# EAGLE library part MCP4451 (library base48)
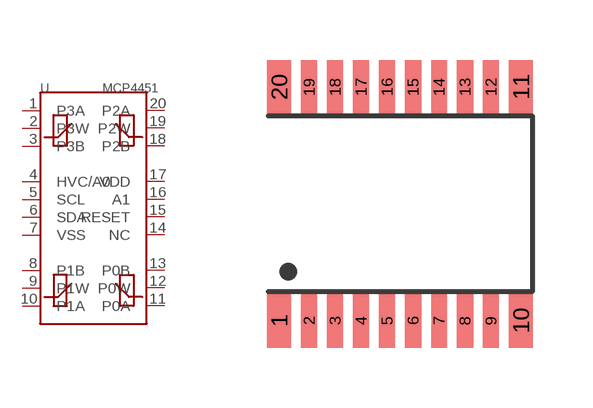
[diagram p0: symbol with the pads of TSSOP20; footprint TSSOP20]

Designator prefix -

## MCP4451  [TSSOP20]
1  P3A
2  P3W
3  P3B
4  HVC/A0
5  SCL
6  SDA
7  VSS
8  P1B
9  P1W
10  P1A
11  P0A
12  P0W
13  P0B
14  NC
15  RESET
16  A1
17  VDD
18  P2B
19  P2W
20  P2A

## Footprint TSSOP20 (pad centres in mm)
smd 0.6 x 1.35: 1 -3.025,-2.925; 10 3.025,-2.925; 11 3.025,2.925; 20 -3.025,2.925
smd 0.4 x 1.35: 2 -2.275,-2.925; 3 -1.625,-2.925; 4 -0.975,-2.925; 5 -0.325,-2.925; 6 0.325,-2.925; 7 0.975,-2.925; 8 1.625,-2.925; 9 2.275,-2.925; 12 2.275,2.925; 13 1.625,2.925; 14 0.975,2.925; 15 0.325,2.925; 16 -0.325,2.925; 17 -0.975,2.925; 18 -1.625,2.925; 19 -2.275,2.925